# Altium schematic symbol library Fuse_Poly.Schlib: 1 symbol
Pins are listed as number, name and electrical type; pins without a type are passive.

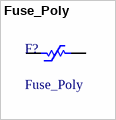
[diagram p0: symbol Fuse_Poly]

## Fuse_Poly
designator F?
Poly Fuse, Trip max 16A, 30V; Manufacturer: LittleFuse Inc; CMW P/N: 30R800UH; Type: PTC Fuse; Value: 16A, 30VDC; HelpURL: http://www.littelfuse.com/data/en/Data_Sheets/Littelfuse_PTC_30R.pdf; Manufacturer P/N: 30R800UH; Package: Radial; Supplier 1: Digikey; Supplier Part Number 1: F2031-ND
pins: 1, 2